# Altium footprint library LQFP.PcbLib: 57 footprints (part 3 of 4)
Each footprint in its own frame and in the unit in brackets; x right, y up, seen from the top. Pads: shape width x height; smd on the part's side, far side on the other; paste and mask are expansions set on the pad; w line width, h text height; cw(c..) or ccw(c..) is an arc to the next point about the centre after c.
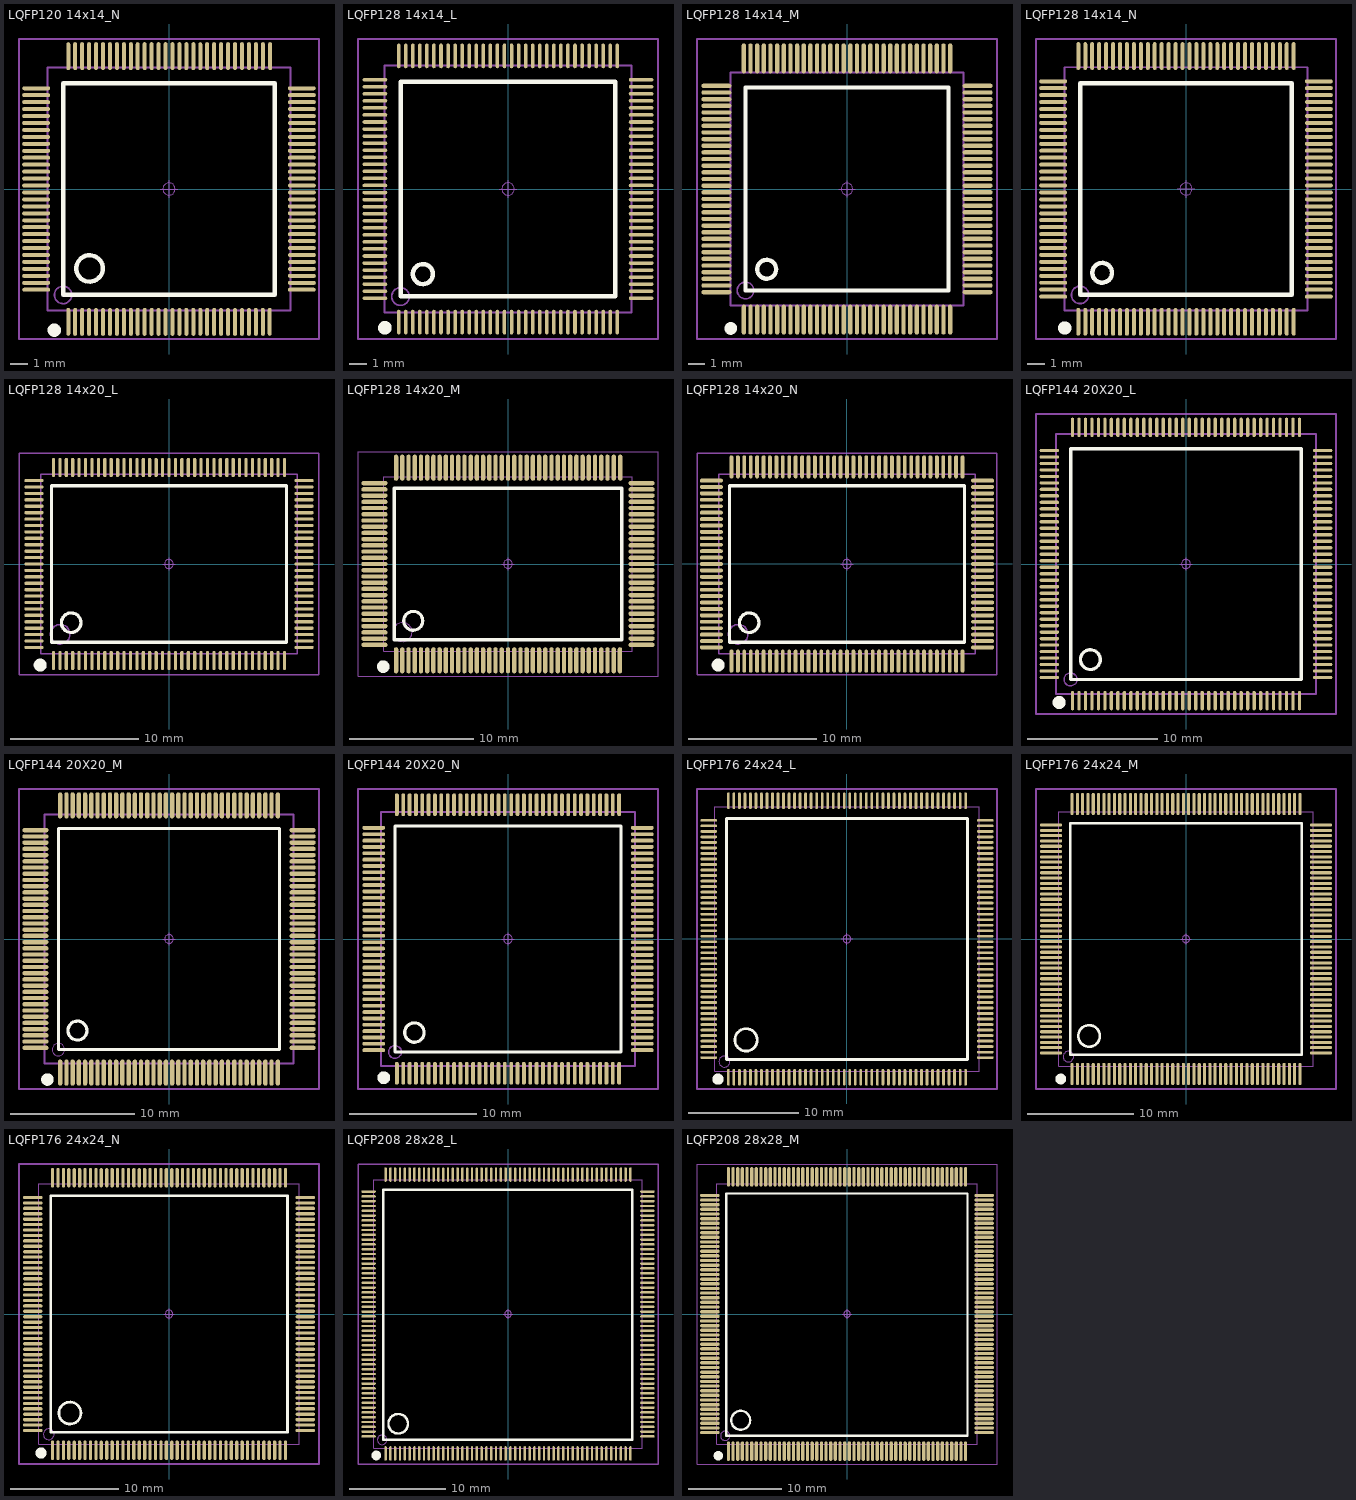
[diagram p2: the footprints below, top view; thin cyan lines are the x and y axes]

## LQFP120 14x14_N [mm] "120脚，体宽：14x14mm, 脚距：0.4mm"
pads (120):
  oval 0.23x1.6 smd: 1(-5.8,-7.651) 2(-5.4,-7.651) 3(-5,-7.651) 4(-4.6,-7.651) 5(-4.2,-7.651) 6(-3.8,-7.651) 7(-3.4,-7.651) 8(-3,-7.651) 9(-2.6,-7.651) 10(-2.2,-7.651) 11(-1.8,-7.651) 12(-1.4,-7.651) 13(-1,-7.651) 14(-0.6,-7.651) 15(-0.2,-7.651) 16(0.2,-7.651) 17(0.6,-7.651) 18(1,-7.651) 19(1.4,-7.651) 20(1.8,-7.651) 21(2.2,-7.651) 22(2.6,-7.651) 23(3,-7.651) 24(3.4,-7.651) 25(3.8,-7.651) 26(4.2,-7.651) 27(4.6,-7.651) 28(5,-7.651) 29(5.4,-7.651) 30(5.8,-7.651) 61(5.825,7.651) 62(5.4,7.651) 63(5,7.651) 64(4.6,7.651) 65(4.2,7.651) 66(3.8,7.651) 67(3.4,7.651) 68(3,7.651) 69(2.6,7.651) 70(2.2,7.651) 71(1.8,7.651) 72(1.4,7.651) 73(1,7.651) 74(0.6,7.651) 75(0.2,7.651) 76(-0.2,7.651) 77(-0.6,7.651) 78(-1,7.651) 79(-1.4,7.651) 80(-1.8,7.651) 81(-2.2,7.651) 82(-2.6,7.651) 83(-3,7.651) 84(-3.4,7.651) 85(-3.8,7.651) 86(-4.2,7.651) 87(-4.6,7.651) 88(-5,7.651) 89(-5.4,7.651) 90(-5.8,7.651)
  oval 1.6x0.23 smd: 31(7.651,-5.8) 32(7.651,-5.4) 33(7.651,-5) 34(7.651,-4.6) 35(7.651,-4.2) 36(7.651,-3.8) 37(7.651,-3.4) 38(7.651,-3) 39(7.651,-2.6) 40(7.651,-2.2) 41(7.651,-1.8) 42(7.651,-1.4) 43(7.651,-1) 44(7.651,-0.6) 45(7.651,-0.2) 46(7.651,0.2) 47(7.651,0.6) 48(7.651,1) 49(7.651,1.4) 50(7.651,1.8) 51(7.651,2.2) 52(7.651,2.6) 53(7.651,3) 54(7.651,3.4) 55(7.651,3.8) 56(7.651,4.2) 57(7.651,4.6) 58(7.651,5) 59(7.651,5.4) 60(7.651,5.8) 91(-7.651,5.8) 92(-7.651,5.4) 93(-7.651,5) 94(-7.651,4.6) 95(-7.651,4.2) 96(-7.651,3.8) 97(-7.651,3.4) 98(-7.651,3) 99(-7.651,2.6) 100(-7.651,2.2) 101(-7.651,1.8) 102(-7.651,1.4) 103(-7.651,1) 104(-7.651,0.6) 105(-7.651,0.2) 106(-7.651,-0.2) 107(-7.651,-0.6) 108(-7.651,-1) 109(-7.651,-1.4) 110(-7.651,-1.8) 111(-7.651,-2.2) 112(-7.651,-2.6) 113(-7.651,-3) 114(-7.651,-3.4) 115(-7.651,-3.8) 116(-7.651,-4.2) 117(-7.651,-4.6) 118(-7.651,-5) 119(-7.651,-5.4) 120(-7.651,-5.8)
Top Overlay:
  circle w0.254: c-4.572,-4.572 r0.762
  circle w0.508: c-6.604,-8.128 r0.127
  lines w0.254: -6.096,-6.096 -6.096,6.096 6.096,6.096 6.096,-6.096 -6.096,-6.096
Mechanical 13:
  circle w0.1: c-6.1,-6.1 r0.5
  lines w0.1: -7,-7 -7,7 7,7 7,-7 -7,-7
Mechanical 15:
  circle w0.05: c0,0 r0.35
  lines w0.05: -0.5,0 0.5,0 ; 0,-0.5 0,0.5
  lines w0.1: -8.636,-8.636 -8.636,8.636 8.636,8.636 8.636,-8.636 -8.636,-8.636
3D body: height 1.45, standoff -0.01, extent -8.003,-8.003 8.003,8.003

## LQFP128 14x14_L [mm] "128脚，体宽：14x14mm, 脚距：0.4mm"
pads (128):
  oval 0.2x1.4 smd: 1(-6.2,-7.549) 2(-5.8,-7.549) 3(-5.4,-7.549) 4(-5,-7.549) 5(-4.6,-7.549) 6(-4.2,-7.549) 7(-3.8,-7.549) 8(-3.4,-7.549) 9(-3,-7.549) 10(-2.6,-7.549) 11(-2.2,-7.549) 12(-1.8,-7.549) 13(-1.4,-7.549) 14(-1,-7.549) 15(-0.6,-7.549) 16(-0.2,-7.549) 17(0.2,-7.549) 18(0.6,-7.549) 19(1,-7.549) 20(1.4,-7.549) 21(1.8,-7.549) 22(2.2,-7.549) 23(2.6,-7.549) 24(3,-7.549) 25(3.4,-7.549) 26(3.8,-7.549) 27(4.2,-7.549) 28(4.6,-7.549) 29(5,-7.549) 30(5.4,-7.549) 31(5.8,-7.549) 32(6.2,-7.549) 65(6.2,7.549) 66(5.8,7.549) 67(5.4,7.549) 68(5,7.549) 69(4.6,7.549) 70(4.2,7.549) 71(3.8,7.549) 72(3.4,7.549) 73(3,7.549) 74(2.6,7.549) 75(2.2,7.549) 76(1.8,7.549) 77(1.4,7.549) 78(1,7.549) 79(0.6,7.549) 80(0.2,7.549) 81(-0.2,7.549) 82(-0.6,7.549) 83(-1,7.549) 84(-1.4,7.549) 85(-1.8,7.549) 86(-2.2,7.549) 87(-2.6,7.549) 88(-3,7.549) 89(-3.4,7.549) 90(-3.8,7.549) 91(-4.2,7.549) 92(-4.6,7.549) 93(-5,7.549) 94(-5.4,7.549) 95(-5.8,7.549) 96(-6.2,7.549)
  oval 1.4x0.2 smd: 33(7.549,-6.2) 34(7.549,-5.8) 35(7.549,-5.4) 36(7.549,-5) 37(7.549,-4.6) 38(7.549,-4.2) 39(7.549,-3.8) 40(7.549,-3.4) 41(7.549,-3) 42(7.549,-2.6) 43(7.549,-2.2) 44(7.549,-1.8) 45(7.549,-1.4) 46(7.549,-1) 47(7.549,-0.6) 48(7.549,-0.2) 49(7.549,0.2) 50(7.549,0.6) 51(7.549,1) 52(7.549,1.4) 53(7.549,1.8) 54(7.549,2.2) 55(7.549,2.6) 56(7.549,3) 57(7.549,3.4) 58(7.549,3.8) 59(7.549,4.2) 60(7.549,4.6) 61(7.549,5) 62(7.549,5.4) 63(7.549,5.8) 64(7.549,6.2) 97(-7.549,6.2) 98(-7.549,5.8) 99(-7.549,5.4) 100(-7.549,5) 101(-7.549,4.6) 102(-7.549,4.2) 103(-7.549,3.8) 104(-7.549,3.4) 105(-7.549,3) 106(-7.549,2.6) 107(-7.549,2.2) 108(-7.549,1.8) 109(-7.549,1.4) 110(-7.549,1) 111(-7.549,0.6) 112(-7.549,0.2) 113(-7.549,-0.2) 114(-7.549,-0.6) 115(-7.549,-1) 116(-7.549,-1.4) 117(-7.549,-1.8) 118(-7.549,-2.2) 119(-7.549,-2.6) 120(-7.549,-3) 121(-7.549,-3.4) 122(-7.549,-3.8) 123(-7.549,-4.2) 124(-7.549,-4.6) 125(-7.549,-5) 126(-7.549,-5.4) 127(-7.549,-5.8) 128(-7.549,-6.2)
Top Overlay:
  circle w0.508: c-6.985,-7.874 r0.127
  circle w0.254: c-4.826,-4.826 r0.568
  lines w0.254: -6.096,-6.096 6.096,-6.096 6.096,6.096 -6.096,6.096 -6.096,-6.096
Mechanical 13:
  circle w0.1: c-6.1,-6.1 r0.5
  lines w0.1: -7,-7 -7,7 7,7 7,-7 -7,-7
Mechanical 15:
  circle w0.05: c0,0 r0.35
  lines w0.05: -0.5,0 0.5,0 ; 0,-0.5 0,0.5
  lines w0.1: -8.509,-8.509 8.509,-8.509 8.509,8.509 -8.509,8.509 -8.509,-8.509
3D body: height 1.45, standoff -0.01, extent -8.003,-8.003 8.003,8.003

## LQFP128 14x14_M [mm] "128脚，体宽：14x14mm, 脚距：0.4mm"
pads (128):
  oval 0.26x1.8 smd: 1(-6.2,-7.854) 2(-5.8,-7.854) 3(-5.4,-7.854) 4(-5,-7.854) 5(-4.6,-7.854) 6(-4.2,-7.854) 7(-3.8,-7.854) 8(-3.4,-7.854) 9(-3,-7.854) 10(-2.6,-7.854) 11(-2.2,-7.854) 12(-1.8,-7.854) 13(-1.4,-7.854) 14(-1,-7.854) 15(-0.6,-7.854) 16(-0.2,-7.854) 17(0.2,-7.854) 18(0.6,-7.854) 19(1,-7.854) 20(1.4,-7.854) 21(1.8,-7.854) 22(2.2,-7.854) 23(2.6,-7.854) 24(3,-7.854) 25(3.4,-7.854) 26(3.8,-7.854) 27(4.2,-7.854) 28(4.6,-7.854) 29(5,-7.854) 30(5.4,-7.854) 31(5.8,-7.854) 32(6.2,-7.854) 65(6.2,7.854) 66(5.8,7.854) 67(5.4,7.854) 68(5,7.854) 69(4.6,7.854) 70(4.2,7.854) 71(3.8,7.854) 72(3.4,7.854) 73(3,7.854) 74(2.6,7.854) 75(2.2,7.854) 76(1.8,7.854) 77(1.4,7.854) 78(1,7.854) 79(0.6,7.854) 80(0.2,7.854) 81(-0.2,7.854) 82(-0.6,7.854) 83(-1,7.854) 84(-1.4,7.854) 85(-1.8,7.854) 86(-2.2,7.854) 87(-2.6,7.854) 88(-3,7.854) 89(-3.4,7.854) 90(-3.8,7.854) 91(-4.2,7.854) 92(-4.6,7.854) 93(-5,7.854) 94(-5.4,7.854) 95(-5.8,7.854) 96(-6.2,7.854)
  oval 1.8x0.26 smd: 33(7.854,-6.2) 34(7.854,-5.8) 35(7.854,-5.4) 36(7.854,-5) 37(7.854,-4.6) 38(7.854,-4.2) 39(7.854,-3.8) 40(7.854,-3.4) 41(7.854,-3) 42(7.854,-2.6) 43(7.854,-2.2) 44(7.854,-1.8) 45(7.854,-1.4) 46(7.854,-1) 47(7.854,-0.6) 48(7.854,-0.2) 49(7.854,0.2) 50(7.854,0.6) 51(7.854,1) 52(7.854,1.4) 53(7.854,1.8) 54(7.854,2.2) 55(7.854,2.6) 56(7.854,3) 57(7.854,3.4) 58(7.854,3.8) 59(7.854,4.2) 60(7.854,4.6) 61(7.854,5) 62(7.854,5.4) 63(7.854,5.8) 64(7.854,6.2) 97(-7.854,6.2) 98(-7.854,5.8) 99(-7.854,5.4) 100(-7.854,5) 101(-7.854,4.6) 102(-7.854,4.2) 103(-7.854,3.8) 104(-7.854,3.4) 105(-7.854,3) 106(-7.854,2.6) 107(-7.854,2.2) 108(-7.854,1.8) 109(-7.854,1.4) 110(-7.854,1) 111(-7.854,0.6) 112(-7.854,0.2) 113(-7.854,-0.2) 114(-7.854,-0.6) 115(-7.854,-1) 116(-7.854,-1.4) 117(-7.854,-1.8) 118(-7.854,-2.2) 119(-7.854,-2.6) 120(-7.854,-3) 121(-7.854,-3.4) 122(-7.854,-3.8) 123(-7.854,-4.2) 124(-7.854,-4.6) 125(-7.854,-5) 126(-7.854,-5.4) 127(-7.854,-5.8) 128(-7.854,-6.2)
Top Overlay:
  circle w0.508: c-6.985,-8.382 r0.127
  circle w0.254: c-4.826,-4.826 r0.568
  lines w0.254: -6.096,-6.096 6.096,-6.096 6.096,6.096 -6.096,6.096 -6.096,-6.096
Mechanical 13:
  circle w0.1: c-6.1,-6.1 r0.5
  lines w0.1: -7,-7 -7,7 7,7 7,-7 -7,-7
Mechanical 15:
  circle w0.05: c0,0 r0.35
  lines w0.05: -0.5,0 0.5,0 ; 0,-0.5 0,0.5
  lines w0.1: -9.017,-9.017 9.017,-9.017 9.017,9.017 -9.017,9.017 -9.017,-9.017
3D body: height 1.45, standoff -0.01, extent -8.003,-8.003 8.003,8.003

## LQFP128 14x14_N [mm] "128脚，体宽：14x14mm, 脚距：0.4mm"
pads (128):
  oval 0.23x1.6 smd: 1(-6.2,-7.648) 2(-5.8,-7.648) 3(-5.4,-7.648) 4(-5,-7.648) 5(-4.6,-7.648) 6(-4.2,-7.648) 7(-3.8,-7.648) 8(-3.4,-7.648) 9(-3,-7.648) 10(-2.6,-7.648) 11(-2.2,-7.648) 12(-1.8,-7.648) 13(-1.4,-7.648) 14(-1,-7.648) 15(-0.6,-7.648) 16(-0.2,-7.648) 17(0.2,-7.648) 18(0.6,-7.648) 19(1,-7.648) 20(1.4,-7.648) 21(1.8,-7.648) 22(2.2,-7.648) 23(2.6,-7.648) 24(3,-7.648) 25(3.4,-7.648) 26(3.8,-7.648) 27(4.2,-7.648) 28(4.6,-7.648) 29(5,-7.648) 30(5.4,-7.648) 31(5.8,-7.648) 32(6.2,-7.648) 65(6.2,7.653) 66(5.8,7.653) 67(5.4,7.653) 68(5,7.653) 69(4.6,7.653) 70(4.2,7.653) 71(3.8,7.653) 72(3.4,7.653) 73(3,7.653) 74(2.6,7.653) 75(2.2,7.653) 76(1.8,7.653) 77(1.4,7.653) 78(1,7.653) 79(0.6,7.653) 80(0.2,7.653) 81(-0.2,7.653) 82(-0.6,7.653) 83(-1,7.653) 84(-1.4,7.653) 85(-1.8,7.653) 86(-2.2,7.653) 87(-2.6,7.653) 88(-3,7.653) 89(-3.4,7.653) 90(-3.8,7.653) 91(-4.2,7.653) 92(-4.6,7.653) 93(-5,7.653) 94(-5.4,7.653) 95(-5.8,7.653) 96(-6.2,7.653)
  oval 1.6x0.23 smd: 33(7.651,-6.198) 34(7.651,-5.798) 35(7.651,-5.398) 36(7.651,-4.998) 37(7.651,-4.598) 38(7.651,-4.198) 39(7.651,-3.798) 40(7.651,-3.398) 41(7.651,-2.998) 42(7.651,-2.598) 43(7.651,-2.198) 44(7.651,-1.798) 45(7.651,-1.398) 46(7.651,-0.998) 47(7.651,-0.598) 48(7.651,-0.198) 49(7.651,0.202) 50(7.651,0.602) 51(7.651,1.002) 52(7.651,1.402) 53(7.651,1.802) 54(7.651,2.202) 55(7.651,2.602) 56(7.651,3.002) 57(7.651,3.402) 58(7.651,3.802) 59(7.651,4.202) 60(7.651,4.602) 61(7.651,5.002) 62(7.651,5.402) 63(7.651,5.802) 64(7.651,6.202) 97(-7.651,6.202) 98(-7.651,5.802) 99(-7.651,5.402) 100(-7.651,5.002) 101(-7.651,4.602) 102(-7.651,4.202) 103(-7.651,3.802) 104(-7.651,3.402) 105(-7.651,3.002) 106(-7.651,2.602) 107(-7.651,2.202) 108(-7.651,1.802) 109(-7.651,1.402) 110(-7.651,1.002) 111(-7.651,0.602) 112(-7.651,0.202) 113(-7.651,-0.198) 114(-7.651,-0.598) 115(-7.651,-0.998) 116(-7.651,-1.398) 117(-7.651,-1.798) 118(-7.651,-2.198) 119(-7.651,-2.598) 120(-7.651,-2.998) 121(-7.651,-3.398) 122(-7.651,-3.798) 123(-7.651,-4.198) 124(-7.651,-4.598) 125(-7.651,-4.998) 126(-7.651,-5.398) 127(-7.651,-5.798) 128(-7.651,-6.198)
Top Overlay:
  circle w0.508: c-6.985,-8.001 r0.127
  circle w0.254: c-4.826,-4.824 r0.568
  lines w0.254: -6.096,-6.094 6.096,-6.094 6.096,6.098 -6.096,6.098 -6.096,-6.094
Mechanical 13:
  circle w0.1: c-6.1,-6.098 r0.5
  lines w0.1: -7,-6.998 -7,7.002 7,7.002 7,-6.998 -7,-6.998
Mechanical 15:
  circle w0.05: c0,0.002 r0.35
  lines w0.05: -0.5,0.002 0.5,0.002 ; 0,-0.498 0,0.502
  lines w0.1: -8.636,-8.636 8.636,-8.636 8.636,8.636 -8.636,8.636 -8.636,-8.636
3D body: height 1.45, standoff -0.01, extent -8.003,-8 8.003,8.005

## LQFP128 14x20_L [mm] "128脚，体宽：14x20mm, 脚距：0.5mm"
pads (128):
  oval 0.25x1.5 smd: 1(-9,-7.517) 2(-8.5,-7.517) 3(-8,-7.517) 4(-7.5,-7.517) 5(-7,-7.517) 6(-6.5,-7.517) 7(-6,-7.517) 8(-5.5,-7.517) 9(-5,-7.517) 10(-4.5,-7.517) 11(-4,-7.517) 12(-3.5,-7.517) 13(-3,-7.517) 14(-2.5,-7.517) 15(-2,-7.517) 16(-1.5,-7.517) 17(-1,-7.517) 18(-0.5,-7.517) 19(0,-7.517) 20(0.5,-7.517) 21(1,-7.517) 22(1.5,-7.517) 23(2,-7.517) 24(2.5,-7.517) 25(3,-7.517) 26(3.5,-7.517) 27(4,-7.517) 28(4.5,-7.517) 29(5,-7.517) 30(5.5,-7.517) 31(6,-7.517) 32(6.5,-7.517) 33(7,-7.517) 34(7.5,-7.517) 35(8,-7.517) 36(8.5,-7.517) 37(9,-7.517) 65(9,7.517) 66(8.5,7.517) 67(8,7.517) 68(7.5,7.517) 69(7,7.517) 70(6.5,7.517) 71(6,7.517) 72(5.5,7.517) 73(5,7.517) 74(4.5,7.517) 75(4,7.517) 76(3.5,7.517) 77(3,7.517) 78(2.5,7.517) 79(2,7.517) 80(1.5,7.517) 81(1,7.517) 82(0.5,7.517) 83(0,7.517) 84(-0.5,7.517) 85(-1,7.517) 86(-1.5,7.517) 87(-2,7.517) 88(-2.5,7.517) 89(-3,7.517) 90(-3.5,7.517) 91(-4,7.517) 92(-4.5,7.517) 93(-5,7.517) 94(-5.5,7.517) 95(-6,7.517) 96(-6.5,7.517) 97(-7,7.517) 98(-7.5,7.517) 99(-8,7.517) 100(-8.5,7.517) 101(-9,7.517)
  oval 1.5x0.25 smd: 38(10.517,-6.5) 39(10.517,-6) 40(10.517,-5.5) 41(10.517,-5) 42(10.517,-4.5) 43(10.517,-4) 44(10.517,-3.5) 45(10.517,-3) 46(10.517,-2.5) 47(10.517,-2) 48(10.517,-1.5) 49(10.517,-1) 50(10.517,-0.5) 51(10.517,0) 52(10.517,0.5) 53(10.517,1) 54(10.517,1.5) 55(10.517,2) 56(10.517,2.5) 57(10.517,3) 58(10.517,3.5) 59(10.517,4) 60(10.517,4.5) 61(10.517,5) 62(10.517,5.5) 63(10.517,6) 64(10.517,6.5) 102(-10.517,6.5) 103(-10.517,6) 104(-10.517,5.5) 105(-10.517,5) 106(-10.517,4.5) 107(-10.517,4) 108(-10.517,3.5) 109(-10.517,3) 110(-10.517,2.5) 111(-10.517,2) 112(-10.517,1.5) 113(-10.517,1) 114(-10.517,0.5) 115(-10.517,0) 116(-10.517,-0.5) 117(-10.517,-1) 118(-10.517,-1.5) 119(-10.517,-2) 120(-10.517,-2.5) 121(-10.517,-3) 122(-10.517,-3.5) 123(-10.517,-4) 124(-10.517,-4.5) 125(-10.517,-5) 126(-10.517,-5.5) 127(-10.517,-6) 128(-10.517,-6.5)
Top Overlay:
  circle w0.508: c-10.033,-7.874 r0.25
  circle w0.254: c-7.62,-4.572 r0.762
  lines w0.254: -9.144,-6.096 -9.144,6.096 9.144,6.096 9.144,-6.096 -9.144,-6.096
Mechanical 13:
  circle w0.1: c-8.476,-5.476 r0.762
  lines w0.1: -10,-7 10,-7 10,7 -10,7 -10,-7
Mechanical 15:
  circle w0.05: c0,0 r0.35
  lines w0.05: -0.5,0 0.5,0 ; 0,-0.5 0,0.5
  lines w0.1: -11.684,-8.636 -11.684,8.636 11.684,8.636 11.684,-8.636 -11.684,-8.636
3D body: height 1.45, standoff -0.01, extent -11.003,-8.003 11.003,8.003

## LQFP128 14x20_M [mm] "128脚，体宽：14x20mm, 脚距：0.5mm"
pads (128):
  oval 0.35x2.1 smd: 1(-9,-7.746) 2(-8.5,-7.746) 3(-8,-7.746) 4(-7.5,-7.746) 5(-7,-7.746) 6(-6.5,-7.746) 7(-6,-7.746) 8(-5.5,-7.746) 9(-5,-7.746) 10(-4.5,-7.746) 11(-4,-7.746) 12(-3.5,-7.746) 13(-3,-7.746) 14(-2.5,-7.746) 15(-2,-7.746) 16(-1.5,-7.746) 17(-1,-7.746) 18(-0.5,-7.746) 19(0,-7.746) 20(0.5,-7.746) 21(1,-7.746) 22(1.5,-7.746) 23(2,-7.746) 24(2.5,-7.746) 25(3,-7.746) 26(3.5,-7.746) 27(4,-7.746) 28(4.5,-7.746) 29(5,-7.746) 30(5.5,-7.746) 31(6,-7.746) 32(6.5,-7.746) 33(7,-7.746) 34(7.5,-7.746) 35(8,-7.746) 36(8.5,-7.746) 37(9,-7.746) 65(9.025,7.746) 66(8.5,7.746) 67(8,7.746) 68(7.5,7.746) 69(7,7.746) 70(6.5,7.746) 71(6,7.746) 72(5.5,7.746) 73(5,7.746) 74(4.5,7.746) 75(4,7.746) 76(3.5,7.746) 77(3,7.746) 78(2.5,7.746) 79(2,7.746) 80(1.5,7.746) 81(1,7.746) 82(0.5,7.746) 83(0,7.746) 84(-0.5,7.746) 85(-1,7.746) 86(-1.5,7.746) 87(-2,7.746) 88(-2.5,7.746) 89(-3,7.746) 90(-3.5,7.746) 91(-4,7.746) 92(-4.5,7.746) 93(-5,7.746) 94(-5.5,7.746) 95(-6,7.746) 96(-6.5,7.746) 97(-7,7.746) 98(-7.5,7.746) 99(-8,7.746) 100(-8.5,7.746) 101(-9,7.746)
  oval 2.1x0.35 smd: 38(10.746,-6.5) 39(10.746,-6) 40(10.746,-5.5) 41(10.746,-5) 42(10.746,-4.5) 43(10.746,-4) 44(10.746,-3.5) 45(10.746,-3) 46(10.746,-2.5) 47(10.746,-2) 48(10.746,-1.5) 49(10.746,-1) 50(10.746,-0.5) 51(10.746,0) 52(10.746,0.5) 53(10.746,1) 54(10.746,1.5) 55(10.746,2) 56(10.746,2.5) 57(10.746,3) 58(10.746,3.5) 59(10.746,4) 60(10.746,4.5) 61(10.746,5) 62(10.746,5.5) 63(10.746,6) 64(10.746,6.5) 102(-10.746,6.5) 103(-10.746,6) 104(-10.746,5.5) 105(-10.746,5) 106(-10.746,4.5) 107(-10.746,4) 108(-10.746,3.5) 109(-10.746,3) 110(-10.746,2.5) 111(-10.746,2) 112(-10.746,1.5) 113(-10.746,1) 114(-10.746,0.5) 115(-10.746,0) 116(-10.746,-0.5) 117(-10.746,-1) 118(-10.746,-1.5) 119(-10.746,-2) 120(-10.746,-2.5) 121(-10.746,-3) 122(-10.746,-3.5) 123(-10.746,-4) 124(-10.746,-4.5) 125(-10.746,-5) 126(-10.746,-5.5) 127(-10.746,-6) 128(-10.746,-6.5)
Top Overlay:
  circle w0.254: c-7.62,-4.572 r0.762
  circle w0.508: c-10.033,-8.255 r0.25
  lines w0.254: -9.144,-6.096 -9.144,6.096 9.144,6.096 9.144,-6.096 -9.144,-6.096
Mechanical 13:
  circle w0.1: c-8.476,-5.476 r0.762
  lines w0.1: -10,-7 10,-7 10,7 -10,7 -10,-7
Mechanical 15:
  circle w0.05: c0,0 r0.35
  lines w0.05: -0.5,0 0.5,0 ; 0,-0.5 0,0.5
  lines w0.1: -12.065,-9.017 -12.065,9.017 12.065,9.017 12.065,-9.017 -12.065,-9.017
3D body: height 1.45, standoff -0.01, extent -11.003,-8.003 11.003,8.003

## LQFP128 14x20_N [mm] "128脚，体宽：14x20mm, 脚距：0.5mm"
pads (128):
  oval 0.3x1.8 smd: 1(-8.998,-7.571) 2(-8.498,-7.571) 3(-7.998,-7.571) 4(-7.498,-7.571) 5(-6.998,-7.571) 6(-6.498,-7.571) 7(-5.998,-7.571) 8(-5.498,-7.571) 9(-4.998,-7.571) 10(-4.498,-7.571) 11(-3.998,-7.571) 12(-3.498,-7.571) 13(-2.998,-7.571) 14(-2.498,-7.571) 15(-1.998,-7.571) 16(-1.498,-7.571) 17(-0.998,-7.571) 18(-0.498,-7.571) 19(0.002,-7.571) 20(0.502,-7.571) 21(1.002,-7.571) 22(1.502,-7.571) 23(2.002,-7.571) 24(2.502,-7.571) 25(3.002,-7.571) 26(3.502,-7.571) 27(4.002,-7.571) 28(4.502,-7.571) 29(5.002,-7.571) 30(5.502,-7.571) 31(6.002,-7.571) 32(6.502,-7.571) 33(7.002,-7.571) 34(7.502,-7.571) 35(8.002,-7.571) 36(8.502,-7.571) 37(9.002,-7.571) 65(9.002,7.566) 66(8.502,7.566) 67(8.002,7.566) 68(7.502,7.566) 69(7.002,7.566) 70(6.502,7.566) 71(6.002,7.566) 72(5.502,7.566) 73(5.002,7.566) 74(4.502,7.566) 75(4.002,7.566) 76(3.502,7.566) 77(3.002,7.566) 78(2.502,7.566) 79(2.002,7.566) 80(1.502,7.566) 81(1.002,7.566) 82(0.502,7.566) 83(0.002,7.566) 84(-0.498,7.566) 85(-0.998,7.566) 86(-1.498,7.566) 87(-1.998,7.566) 88(-2.498,7.566) 89(-2.998,7.566) 90(-3.498,7.566) 91(-3.998,7.566) 92(-4.498,7.566) 93(-4.998,7.566) 94(-5.498,7.566) 95(-5.998,7.566) 96(-6.498,7.566) 97(-6.998,7.566) 98(-7.498,7.566) 99(-7.998,7.566) 100(-8.498,7.566) 101(-8.998,7.566)
  oval 1.8x0.3 smd: 38(10.57,-6.502) 39(10.57,-6.002) 40(10.57,-5.502) 41(10.57,-5.002) 42(10.57,-4.502) 43(10.57,-4.002) 44(10.57,-3.502) 45(10.57,-3.002) 46(10.57,-2.502) 47(10.57,-2.002) 48(10.57,-1.502) 49(10.57,-1.002) 50(10.57,-0.502) 51(10.57,-0.002) 52(10.57,0.498) 53(10.57,0.998) 54(10.57,1.498) 55(10.57,1.998) 56(10.57,2.498) 57(10.57,2.998) 58(10.57,3.498) 59(10.57,3.998) 60(10.57,4.498) 61(10.57,4.998) 62(10.57,5.498) 63(10.57,5.998) 64(10.57,6.498) 102(-10.566,6.498) 103(-10.566,5.998) 104(-10.566,5.498) 105(-10.566,4.998) 106(-10.566,4.498) 107(-10.566,3.998) 108(-10.566,3.498) 109(-10.566,2.998) 110(-10.566,2.498) 111(-10.566,1.998) 112(-10.566,1.498) 113(-10.566,0.998) 114(-10.566,0.498) 115(-10.566,-0.002) 116(-10.566,-0.502) 117(-10.566,-1.002) 118(-10.566,-1.502) 119(-10.566,-2.002) 120(-10.566,-2.502) 121(-10.566,-3.002) 122(-10.566,-3.502) 123(-10.566,-4.002) 124(-10.566,-4.502) 125(-10.566,-5.002) 126(-10.566,-5.502) 127(-10.566,-6.002) 128(-10.566,-6.502)
Top Overlay:
  circle w0.254: c-7.618,-4.574 r0.762
  circle w0.508: c-10.033,-7.874 r0.25
  lines w0.254: -9.142,-6.098 -9.142,6.094 9.146,6.094 9.146,-6.098 -9.142,-6.098
Mechanical 13:
  circle w0.1: c-8.474,-5.478 r0.762
  lines w0.1: -9.998,-7.002 10.002,-7.002 10.002,6.998 -9.998,6.998 -9.998,-7.002
Mechanical 15:
  circle w0.05: c0.002,-0.002 r0.35
  lines w0.05: -0.498,-0.002 0.502,-0.002 ; 0.002,-0.502 0.002,0.498
  lines w0.1: -11.682,-8.638 -11.682,8.634 11.686,8.634 11.686,-8.638 -11.682,-8.638
3D body: height 1.45, standoff -0.01, extent -11.001,-8.005 11.005,8

## LQFP144 20X20_L [mm] "144脚，体宽20x20mm，脚距0.5mm"
pads (144):
  oval 0.25x1.5 smd: 1(-8.75,-10.525) 2(-8.25,-10.525) 3(-7.75,-10.525) 4(-7.25,-10.525) 5(-6.75,-10.525) 6(-6.25,-10.525) 7(-5.75,-10.525) 8(-5.25,-10.525) 9(-4.75,-10.525) 10(-4.25,-10.525) 11(-3.75,-10.525) 12(-3.25,-10.525) 13(-2.75,-10.525) 14(-2.25,-10.525) 15(-1.75,-10.525) 16(-1.25,-10.525) 17(-0.75,-10.525) 18(-0.25,-10.525) 19(0.25,-10.525) 20(0.75,-10.525) 21(1.25,-10.525) 22(1.75,-10.525) 23(2.25,-10.525) 24(2.75,-10.525) 25(3.25,-10.525) 26(3.75,-10.525) 27(4.25,-10.525) 28(4.75,-10.525) 29(5.25,-10.525) 30(5.75,-10.525) 31(6.25,-10.525) 32(6.75,-10.525) 33(7.25,-10.525) 34(7.75,-10.525) 35(8.25,-10.525) 36(8.75,-10.525) 73(8.75,10.525) 74(8.25,10.525) 75(7.75,10.525) 76(7.25,10.525) 77(6.75,10.525) 78(6.25,10.525) 79(5.75,10.525) 80(5.25,10.525) 81(4.75,10.525) 82(4.25,10.525) 83(3.75,10.525) 84(3.25,10.525) 85(2.75,10.525) 86(2.25,10.525) 87(1.75,10.525) 88(1.25,10.525) 89(0.75,10.525) 90(0.25,10.525) 91(-0.25,10.525) 92(-0.75,10.525) 93(-1.25,10.525) 94(-1.75,10.525) 95(-2.25,10.525) 96(-2.75,10.525) 97(-3.25,10.525) 98(-3.75,10.525) 99(-4.25,10.525) 100(-4.75,10.525) 101(-5.25,10.525) 102(-5.75,10.525) 103(-6.25,10.525) 104(-6.75,10.525) 105(-7.25,10.525) 106(-7.75,10.525) 107(-8.25,10.525) 108(-8.75,10.525)
  oval 1.5x0.25 smd: 37(10.525,-8.75) 38(10.525,-8.25) 39(10.525,-7.75) 40(10.525,-7.25) 41(10.525,-6.75) 42(10.525,-6.25) 43(10.525,-5.75) 44(10.525,-5.25) 45(10.525,-4.75) 46(10.525,-4.25) 47(10.525,-3.75) 48(10.525,-3.25) 49(10.525,-2.75) 50(10.525,-2.25) 51(10.525,-1.75) 52(10.525,-1.25) 53(10.525,-0.75) 54(10.525,-0.25) 55(10.525,0.25) 56(10.525,0.75) 57(10.525,1.25) 58(10.525,1.75) 59(10.525,2.25) 60(10.525,2.75) 61(10.525,3.25) 62(10.525,3.75) 63(10.525,4.25) 64(10.525,4.75) 65(10.525,5.25) 66(10.525,5.75) 67(10.525,6.25) 68(10.525,6.75) 69(10.525,7.25) 70(10.525,7.75) 71(10.525,8.25) 72(10.525,8.75) 109(-10.525,8.75) 110(-10.525,8.25) 111(-10.525,7.75) 112(-10.525,7.25) 113(-10.525,6.75) 114(-10.525,6.25) 115(-10.525,5.75) 116(-10.525,5.25) 117(-10.525,4.75) 118(-10.525,4.25) 119(-10.525,3.75) 120(-10.525,3.25) 121(-10.525,2.75) 122(-10.525,2.25) 123(-10.525,1.75) 124(-10.525,1.25) 125(-10.525,0.75) 126(-10.525,0.25) 127(-10.525,-0.25) 128(-10.525,-0.75) 129(-10.525,-1.25) 130(-10.525,-1.75) 131(-10.525,-2.25) 132(-10.525,-2.75) 133(-10.525,-3.25) 134(-10.525,-3.75) 135(-10.525,-4.25) 136(-10.525,-4.75) 137(-10.525,-5.25) 138(-10.525,-5.75) 139(-10.525,-6.25) 140(-10.525,-6.75) 141(-10.525,-7.25) 142(-10.525,-7.75) 143(-10.525,-8.25) 144(-10.525,-8.75)
Top Overlay:
  circle w0.254: c-7.366,-7.366 r0.762
  circle w0.508: c-9.779,-10.668 r0.25
  lines w0.254: -8.89,-8.892 8.89,-8.892 8.89,8.89 -8.89,8.89 -8.89,-8.892
Mechanical 13:
  circle w0.1: c-8.894,-8.894 r0.5
  lines w0.15: -10,-10 -10,10 10,10 10,-10 -10,-10
Mechanical 15:
  circle w0.05: c0,0 r0.35
  lines w0.05: -0.5,0 0.5,0 ; 0,-0.5 0,0.5
  lines w0.15: -11.557,-11.557 11.557,-11.557 11.557,11.557 -11.557,11.557 -11.557,-11.557
3D body: height 1.45, standoff -0.01, extent -11.003,-11.003 11.003,11.003

## LQFP144 20X20_M [mm] "144脚，体宽20x20mm，脚距0.5mm"
pads (144):
  oval 0.35x2.1 smd: 1(-8.75,-10.747) 2(-8.25,-10.747) 3(-7.75,-10.747) 4(-7.25,-10.747) 5(-6.75,-10.747) 6(-6.25,-10.747) 7(-5.75,-10.747) 8(-5.25,-10.747) 9(-4.75,-10.747) 10(-4.25,-10.747) 11(-3.75,-10.747) 12(-3.25,-10.747) 13(-2.75,-10.747) 14(-2.25,-10.747) 15(-1.75,-10.747) 16(-1.25,-10.747) 17(-0.75,-10.747) 18(-0.25,-10.747) 19(0.25,-10.747) 20(0.75,-10.747) 21(1.25,-10.747) 22(1.75,-10.747) 23(2.25,-10.747) 24(2.75,-10.747) 25(3.25,-10.747) 26(3.75,-10.747) 27(4.25,-10.747) 28(4.75,-10.747) 29(5.25,-10.747) 30(5.75,-10.747) 31(6.25,-10.747) 32(6.75,-10.747) 33(7.25,-10.747) 34(7.75,-10.747) 35(8.25,-10.747) 36(8.75,-10.747) 73(8.75,10.747) 74(8.25,10.747) 75(7.75,10.747) 76(7.25,10.747) 77(6.75,10.747) 78(6.25,10.747) 79(5.75,10.747) 80(5.25,10.747) 81(4.75,10.747) 82(4.25,10.747) 83(3.75,10.747) 84(3.25,10.747) 85(2.75,10.747) 86(2.25,10.747) 87(1.75,10.747) 88(1.25,10.747) 89(0.75,10.747) 90(0.25,10.747) 91(-0.25,10.747) 92(-0.75,10.747) 93(-1.25,10.747) 94(-1.75,10.747) 95(-2.25,10.747) 96(-2.75,10.747) 97(-3.25,10.747) 98(-3.75,10.747) 99(-4.25,10.747) 100(-4.75,10.747) 101(-5.25,10.747) 102(-5.75,10.747) 103(-6.25,10.747) 104(-6.75,10.747) 105(-7.25,10.747) 106(-7.75,10.747) 107(-8.25,10.747) 108(-8.75,10.747)
  oval 2.1x0.35 smd: 37(10.747,-8.75) 38(10.747,-8.25) 39(10.747,-7.75) 40(10.747,-7.25) 41(10.747,-6.75) 42(10.747,-6.25) 43(10.747,-5.75) 44(10.747,-5.25) 45(10.747,-4.75) 46(10.747,-4.25) 47(10.747,-3.75) 48(10.747,-3.25) 49(10.747,-2.75) 50(10.747,-2.25) 51(10.747,-1.75) 52(10.747,-1.25) 53(10.747,-0.75) 54(10.747,-0.25) 55(10.747,0.25) 56(10.747,0.75) 57(10.747,1.25) 58(10.747,1.75) 59(10.747,2.25) 60(10.747,2.75) 61(10.747,3.25) 62(10.747,3.75) 63(10.747,4.25) 64(10.747,4.75) 65(10.747,5.25) 66(10.747,5.75) 67(10.747,6.25) 68(10.747,6.75) 69(10.747,7.25) 70(10.747,7.75) 71(10.747,8.25) 72(10.747,8.75) 109(-10.747,8.75) 110(-10.747,8.25) 111(-10.747,7.75) 112(-10.747,7.25) 113(-10.747,6.75) 114(-10.747,6.25) 115(-10.747,5.75) 116(-10.747,5.25) 117(-10.747,4.75) 118(-10.747,4.25) 119(-10.747,3.75) 120(-10.747,3.25) 121(-10.747,2.75) 122(-10.747,2.25) 123(-10.747,1.75) 124(-10.747,1.25) 125(-10.747,0.75) 126(-10.747,0.25) 127(-10.747,-0.25) 128(-10.747,-0.75) 129(-10.747,-1.25) 130(-10.747,-1.75) 131(-10.747,-2.25) 132(-10.747,-2.75) 133(-10.747,-3.25) 134(-10.747,-3.75) 135(-10.747,-4.25) 136(-10.747,-4.75) 137(-10.747,-5.25) 138(-10.747,-5.75) 139(-10.747,-6.25) 140(-10.747,-6.75) 141(-10.747,-7.25) 142(-10.747,-7.75) 143(-10.747,-8.25) 144(-10.747,-8.75)
Top Overlay:
  circle w0.508: c-9.779,-11.303 r0.25
  circle w0.254: c-7.366,-7.366 r0.762
  lines w0.254: -8.89,-8.892 8.89,-8.892 8.89,8.89 -8.89,8.89 -8.89,-8.892
Mechanical 13:
  circle w0.1: c-8.894,-8.894 r0.5
  lines w0.15: -10,-10 -10,10 10,10 10,-10 -10,-10
Mechanical 15:
  circle w0.05: c0,0 r0.35
  lines w0.05: -0.5,0 0.5,0 ; 0,-0.5 0,0.5
  lines w0.15: -12.065,-12.065 12.065,-12.065 12.065,12.065 -12.065,12.065 -12.065,-12.065
3D body: height 1.45, standoff -0.01, extent -11.003,-11.003 11.003,11.003

## LQFP144 20X20_N [mm] "144脚，体宽20x20mm，脚距0.5mm"
pads (144):
  oval 0.3x1.8 smd: 1(-8.75,-10.573) 2(-8.25,-10.573) 3(-7.75,-10.573) 4(-7.25,-10.573) 5(-6.75,-10.573) 6(-6.25,-10.573) 7(-5.75,-10.573) 8(-5.25,-10.573) 9(-4.75,-10.573) 10(-4.25,-10.573) 11(-3.75,-10.573) 12(-3.25,-10.573) 13(-2.75,-10.573) 14(-2.25,-10.573) 15(-1.75,-10.573) 16(-1.25,-10.573) 17(-0.75,-10.573) 18(-0.25,-10.573) 19(0.25,-10.573) 20(0.75,-10.573) 21(1.25,-10.573) 22(1.75,-10.573) 23(2.25,-10.573) 24(2.75,-10.573) 25(3.25,-10.573) 26(3.75,-10.573) 27(4.25,-10.573) 28(4.75,-10.573) 29(5.25,-10.573) 30(5.75,-10.573) 31(6.25,-10.573) 32(6.75,-10.573) 33(7.25,-10.573) 34(7.75,-10.573) 35(8.25,-10.573) 36(8.75,-10.573) 73(8.75,10.573) 74(8.25,10.573) 75(7.75,10.573) 76(7.25,10.573) 77(6.75,10.573) 78(6.25,10.573) 79(5.75,10.573) 80(5.25,10.573) 81(4.75,10.573) 82(4.25,10.573) 83(3.75,10.573) 84(3.25,10.573) 85(2.75,10.573) 86(2.25,10.573) 87(1.75,10.573) 88(1.25,10.573) 89(0.75,10.573) 90(0.25,10.573) 91(-0.25,10.573) 92(-0.75,10.573) 93(-1.25,10.573) 94(-1.75,10.573) 95(-2.25,10.573) 96(-2.75,10.573) 97(-3.25,10.573) 98(-3.75,10.573) 99(-4.25,10.573) 100(-4.75,10.573) 101(-5.25,10.573) 102(-5.75,10.573) 103(-6.25,10.573) 104(-6.75,10.573) 105(-7.25,10.573) 106(-7.75,10.573) 107(-8.25,10.573) 108(-8.75,10.573)
  oval 1.8x0.3 smd: 37(10.573,-8.75) 38(10.573,-8.25) 39(10.573,-7.75) 40(10.573,-7.25) 41(10.573,-6.75) 42(10.573,-6.25) 43(10.573,-5.75) 44(10.573,-5.25) 45(10.573,-4.75) 46(10.573,-4.25) 47(10.573,-3.75) 48(10.573,-3.25) 49(10.573,-2.75) 50(10.573,-2.25) 51(10.573,-1.75) 52(10.573,-1.25) 53(10.573,-0.75) 54(10.573,-0.25) 55(10.573,0.25) 56(10.573,0.75) 57(10.573,1.25) 58(10.573,1.75) 59(10.573,2.25) 60(10.573,2.75) 61(10.573,3.25) 62(10.573,3.75) 63(10.573,4.25) 64(10.573,4.75) 65(10.573,5.25) 66(10.573,5.75) 67(10.573,6.25) 68(10.573,6.75) 69(10.573,7.25) 70(10.573,7.75) 71(10.573,8.25) 72(10.573,8.75) 109(-10.573,8.75) 110(-10.573,8.25) 111(-10.573,7.75) 112(-10.573,7.25) 113(-10.573,6.75) 114(-10.573,6.25) 115(-10.573,5.75) 116(-10.573,5.25) 117(-10.573,4.75) 118(-10.573,4.25) 119(-10.573,3.75) 120(-10.573,3.25) 121(-10.573,2.75) 122(-10.573,2.25) 123(-10.573,1.75) 124(-10.573,1.25) 125(-10.573,0.75) 126(-10.573,0.25) 127(-10.573,-0.25) 128(-10.573,-0.75) 129(-10.573,-1.25) 130(-10.573,-1.75) 131(-10.573,-2.25) 132(-10.573,-2.75) 133(-10.573,-3.25) 134(-10.573,-3.75) 135(-10.573,-4.25) 136(-10.573,-4.75) 137(-10.573,-5.25) 138(-10.573,-5.75) 139(-10.573,-6.25) 140(-10.573,-6.75) 141(-10.573,-7.25) 142(-10.573,-7.75) 143(-10.573,-8.25) 144(-10.573,-8.75)
Top Overlay:
  circle w0.254: c-7.366,-7.366 r0.762
  circle w0.508: c-9.779,-10.922 r0.25
  lines w0.254: -8.89,-8.892 8.89,-8.892 8.89,8.89 -8.89,8.89 -8.89,-8.892
Mechanical 13:
  circle w0.1: c-8.894,-8.894 r0.5
  lines w0.15: -10,-10 -10,10 10,10 10,-10 -10,-10
Mechanical 15:
  circle w0.05: c0,0 r0.35
  lines w0.05: -0.5,0 0.5,0 ; 0,-0.5 0,0.5
  lines w0.15: -11.811,-11.811 11.811,-11.811 11.811,11.811 -11.811,11.811 -11.811,-11.811
3D body: height 1.45, standoff -0.01, extent -11.003,-11.003 11.003,11.003

## LQFP176 24x24_L [mm] "176脚，体宽24x24mm，脚距0.5mm"
height 1.6
pads (176):
  oval 0.25x1.5 smd: 1(-10.75,-12.525) 2(-10.25,-12.525) 3(-9.75,-12.525) 4(-9.25,-12.525) 5(-8.75,-12.525) 6(-8.25,-12.525) 7(-7.75,-12.525) 8(-7.25,-12.525) 9(-6.75,-12.525) 10(-6.25,-12.525) 11(-5.75,-12.525) 12(-5.25,-12.525) 13(-4.75,-12.525) 14(-4.25,-12.525) 15(-3.75,-12.525) 16(-3.25,-12.525) 17(-2.75,-12.525) 18(-2.25,-12.525) 19(-1.75,-12.525) 20(-1.25,-12.525) 21(-0.75,-12.525) 22(-0.25,-12.525) 23(0.25,-12.525) 24(0.75,-12.525) 25(1.25,-12.525) 26(1.75,-12.525) 27(2.25,-12.525) 28(2.75,-12.525) 29(3.25,-12.525) 30(3.75,-12.525) 31(4.25,-12.525) 32(4.75,-12.525) 33(5.25,-12.525) 34(5.75,-12.525) 35(6.25,-12.525) 36(6.75,-12.525) 37(7.25,-12.525) 38(7.75,-12.525) 39(8.25,-12.525) 40(8.75,-12.525) 41(9.25,-12.525) 42(9.75,-12.525) 43(10.25,-12.525) 44(10.75,-12.525) 89(10.75,12.525) 90(10.25,12.525) 91(9.75,12.525) 92(9.25,12.525) 93(8.75,12.525) 94(8.25,12.525) 95(7.75,12.525) 96(7.25,12.525) 97(6.75,12.525) 98(6.25,12.525) 99(5.75,12.525) 100(5.25,12.525) 101(4.75,12.525) 102(4.25,12.525) 103(3.75,12.525) 104(3.25,12.525) 105(2.75,12.525) 106(2.25,12.525) 107(1.75,12.525) 108(1.25,12.525) 109(0.75,12.525) 110(0.25,12.525) 111(-0.25,12.525) 112(-0.75,12.525) 113(-1.25,12.525) 114(-1.75,12.525) 115(-2.25,12.525) 116(-2.75,12.525) 117(-3.25,12.525) 118(-3.75,12.525) 119(-4.25,12.525) 120(-4.75,12.525) 121(-5.25,12.525) 122(-5.75,12.525) 123(-6.25,12.525) 124(-6.75,12.525) 125(-7.25,12.525) 126(-7.75,12.525) 127(-8.25,12.525) 128(-8.75,12.525) 129(-9.25,12.525) 130(-9.75,12.525) 131(-10.25,12.525) 132(-10.75,12.525)
  oval 1.5x0.25 smd: 45(12.525,-10.75) 46(12.525,-10.25) 47(12.525,-9.75) 48(12.525,-9.25) 49(12.525,-8.75) 50(12.525,-8.25) 51(12.525,-7.75) 52(12.525,-7.25) 53(12.525,-6.75) 54(12.525,-6.25) 55(12.525,-5.75) 56(12.525,-5.25) 57(12.525,-4.75) 58(12.525,-4.25) 59(12.525,-3.75) 60(12.525,-3.25) 61(12.525,-2.75) 62(12.525,-2.25) 63(12.525,-1.75) 64(12.525,-1.25) 65(12.525,-0.75) 66(12.525,-0.25) 67(12.525,0.25) 68(12.525,0.75) 69(12.525,1.25) 70(12.525,1.75) 71(12.525,2.25) 72(12.525,2.75) 73(12.525,3.25) 74(12.525,3.75) 75(12.525,4.25) 76(12.525,4.75) 77(12.525,5.25) 78(12.525,5.75) 79(12.525,6.25) 80(12.525,6.75) 81(12.525,7.25) 82(12.525,7.75) 83(12.525,8.25) 84(12.525,8.75) 85(12.525,9.25) 86(12.525,9.75) 87(12.525,10.25) 88(12.525,10.75) 133(-12.525,10.75) 134(-12.525,10.25) 135(-12.525,9.75) 136(-12.525,9.25) 137(-12.525,8.75) 138(-12.525,8.25) 139(-12.525,7.75) 140(-12.525,7.25) 141(-12.525,6.75) 142(-12.525,6.25) 143(-12.525,5.75) 144(-12.525,5.25) 145(-12.525,4.75) 146(-12.525,4.25) 147(-12.525,3.75) 148(-12.525,3.25) 149(-12.525,2.75) 150(-12.525,2.25) 151(-12.525,1.75) 152(-12.525,1.25) 153(-12.525,0.75) 154(-12.525,0.25) 155(-12.525,-0.25) 156(-12.525,-0.75) 157(-12.525,-1.25) 158(-12.525,-1.75) 159(-12.525,-2.25) 160(-12.525,-2.75) 161(-12.525,-3.25) 162(-12.525,-3.75) 163(-12.525,-4.25) 164(-12.525,-4.75) 165(-12.525,-5.25) 166(-12.525,-5.75) 167(-12.525,-6.25) 168(-12.525,-6.75) 169(-12.525,-7.25) 170(-12.525,-7.75) 171(-12.525,-8.25) 172(-12.525,-8.75) 173(-12.525,-9.25) 174(-12.525,-9.75) 175(-12.525,-10.25) 176(-12.525,-10.75)
Top Overlay:
  circle w0.508: c-11.684,-12.7 r0.25
  circle w0.254: c-9.144,-9.144 r1.016
  lines w0.254: -10.922,-10.922 10.922,-10.922 10.922,10.922 -10.922,10.922 -10.922,-10.922
Mechanical 13:
  circle w0.1: c-11.1,-11.1 r0.5
  lines w0.1: -12,-12 12,-12 12,12 -12,12 -12,-12
Mechanical 15:
  circle w0.05: c0,0 r0.35
  lines w0.05: -0.5,0 0.5,0 ; 0,-0.5 0,0.5
  lines w0.15: -13.589,-13.589 13.589,-13.589 13.589,13.589 -13.589,13.589 -13.589,-13.589
3D body: height 1.45, standoff -0.01, extent -13.003,-13.003 13.003,13.003

## LQFP176 24x24_M [mm] "176脚，体宽24x24mm，脚距0.5mm"
height 1.6
pads (176):
  oval 0.3x2.1 smd: 1(-10.75,-12.727) 2(-10.25,-12.727) 3(-9.75,-12.727) 4(-9.25,-12.727) 5(-8.75,-12.727) 6(-8.25,-12.727) 7(-7.75,-12.727) 8(-7.25,-12.727) 9(-6.75,-12.727) 10(-6.25,-12.727) 11(-5.75,-12.727) 12(-5.25,-12.727) 13(-4.75,-12.727) 14(-4.25,-12.727) 15(-3.75,-12.727) 16(-3.25,-12.727) 17(-2.75,-12.727) 18(-2.25,-12.727) 19(-1.75,-12.727) 20(-1.25,-12.727) 21(-0.75,-12.727) 22(-0.25,-12.727) 23(0.25,-12.727) 24(0.75,-12.727) 25(1.25,-12.727) 26(1.75,-12.727) 27(2.25,-12.727) 28(2.75,-12.727) 29(3.25,-12.727) 30(3.75,-12.727) 31(4.25,-12.727) 32(4.75,-12.727) 33(5.25,-12.727) 34(5.75,-12.727) 35(6.25,-12.727) 36(6.75,-12.727) 37(7.25,-12.727) 38(7.75,-12.727) 39(8.25,-12.727) 40(8.75,-12.727) 41(9.25,-12.727) 42(9.75,-12.727) 43(10.25,-12.727) 44(10.75,-12.727) 89(10.75,12.727) 90(10.25,12.727) 91(9.75,12.727) 92(9.25,12.727) 93(8.75,12.727) 94(8.25,12.727) 95(7.75,12.727) 96(7.25,12.727) 97(6.75,12.727) 98(6.25,12.727) 99(5.75,12.727) 100(5.25,12.727) 101(4.75,12.727) 102(4.25,12.727) 103(3.75,12.727) 104(3.25,12.727) 105(2.75,12.727) 106(2.25,12.727) 107(1.75,12.727) 108(1.25,12.727) 109(0.75,12.727) 110(0.25,12.727) 111(-0.25,12.727) 112(-0.75,12.727) 113(-1.25,12.727) 114(-1.75,12.727) 115(-2.25,12.727) 116(-2.75,12.727) 117(-3.25,12.727) 118(-3.75,12.727) 119(-4.25,12.727) 120(-4.75,12.727) 121(-5.25,12.727) 122(-5.75,12.727) 123(-6.25,12.727) 124(-6.75,12.727) 125(-7.25,12.727) 126(-7.75,12.727) 127(-8.25,12.727) 128(-8.75,12.727) 129(-9.25,12.727) 130(-9.75,12.727) 131(-10.25,12.727) 132(-10.75,12.727)
  oval 2.1x0.3 smd: 45(12.727,-10.75) 46(12.727,-10.25) 47(12.727,-9.75) 48(12.727,-9.25) 49(12.727,-8.75) 50(12.727,-8.25) 51(12.727,-7.75) 52(12.727,-7.25) 53(12.727,-6.75) 54(12.727,-6.25) 55(12.727,-5.75) 56(12.727,-5.25) 57(12.727,-4.75) 58(12.727,-4.25) 59(12.727,-3.75) 60(12.727,-3.25) 61(12.727,-2.75) 62(12.727,-2.25) 63(12.727,-1.75) 64(12.727,-1.25) 65(12.727,-0.75) 66(12.727,-0.25) 67(12.727,0.25) 68(12.727,0.75) 69(12.727,1.25) 70(12.727,1.75) 71(12.727,2.25) 72(12.727,2.75) 73(12.727,3.25) 74(12.727,3.75) 75(12.727,4.25) 76(12.727,4.75) 77(12.727,5.25) 78(12.727,5.75) 79(12.727,6.25) 80(12.727,6.75) 81(12.727,7.25) 82(12.727,7.75) 83(12.727,8.25) 84(12.727,8.75) 85(12.727,9.25) 86(12.727,9.75) 87(12.727,10.25) 88(12.727,10.75) 133(-12.727,10.75) 134(-12.727,10.25) 135(-12.727,9.75) 136(-12.727,9.25) 137(-12.727,8.75) 138(-12.727,8.25) 139(-12.727,7.75) 140(-12.727,7.25) 141(-12.727,6.75) 142(-12.727,6.25) 143(-12.727,5.75) 144(-12.727,5.25) 145(-12.727,4.75) 146(-12.727,4.25) 147(-12.727,3.75) 148(-12.727,3.25) 149(-12.727,2.75) 150(-12.727,2.25) 151(-12.727,1.75) 152(-12.727,1.25) 153(-12.727,0.75) 154(-12.727,0.25) 155(-12.727,-0.25) 156(-12.727,-0.75) 157(-12.727,-1.25) 158(-12.727,-1.75) 159(-12.727,-2.25) 160(-12.727,-2.75) 161(-12.727,-3.25) 162(-12.727,-3.75) 163(-12.727,-4.25) 164(-12.727,-4.75) 165(-12.727,-5.25) 166(-12.727,-5.75) 167(-12.727,-6.25) 168(-12.727,-6.75) 169(-12.727,-7.25) 170(-12.727,-7.75) 171(-12.727,-8.25) 172(-12.727,-8.75) 173(-12.727,-9.25) 174(-12.727,-9.75) 175(-12.727,-10.25) 176(-12.727,-10.75)
Top Overlay:
  circle w0.254: c-9.144,-9.144 r1.016
  circle w0.508: c-11.811,-13.208 r0.25
  lines w0.254: -10.922,-10.922 10.922,-10.922 10.922,10.922 -10.922,10.922 -10.922,-10.922
Mechanical 13:
  circle w0.1: c-11.1,-11.1 r0.5
  lines w0.1: -12,-12 12,-12 12,12 -12,12 -12,-12
Mechanical 15:
  circle w0.05: c0,0 r0.35
  lines w0.05: -0.5,0 0.5,0 ; 0,-0.5 0,0.5
  lines w0.15: -14.15,-14.15 14.15,-14.15 14.15,14.15 -14.15,14.15 -14.15,-14.15
3D body: height 1.45, standoff -0.01, extent -13.003,-13.003 13.003,13.003

## LQFP176 24x24_N [mm] "176脚，体宽24x24mm，脚距0.5mm"
height 1.6
pads (176):
  oval 0.3x1.8 smd: 1(-10.748,-12.575) 2(-10.248,-12.575) 3(-9.748,-12.575) 4(-9.248,-12.575) 5(-8.748,-12.575) 6(-8.248,-12.575) 7(-7.748,-12.575) 8(-7.248,-12.575) 9(-6.748,-12.575) 10(-6.248,-12.575) 11(-5.748,-12.575) 12(-5.248,-12.575) 13(-4.748,-12.575) 14(-4.248,-12.575) 15(-3.748,-12.575) 16(-3.248,-12.575) 17(-2.748,-12.575) 18(-2.248,-12.575) 19(-1.748,-12.575) 20(-1.248,-12.575) 21(-0.748,-12.575) 22(-0.248,-12.575) 23(0.252,-12.575) 24(0.752,-12.575) 25(1.252,-12.575) 26(1.752,-12.575) 27(2.252,-12.575) 28(2.752,-12.575) 29(3.252,-12.575) 30(3.752,-12.575) 31(4.252,-12.575) 32(4.752,-12.575) 33(5.252,-12.575) 34(5.752,-12.575) 35(6.252,-12.575) 36(6.752,-12.575) 37(7.252,-12.575) 38(7.752,-12.575) 39(8.252,-12.575) 40(8.752,-12.575) 41(9.252,-12.575) 42(9.752,-12.575) 43(10.252,-12.575) 44(10.752,-12.575) 89(10.752,12.575) 90(10.252,12.575) 91(9.752,12.575) 92(9.252,12.575) 93(8.752,12.575) 94(8.252,12.575) 95(7.752,12.575) 96(7.252,12.575) 97(6.752,12.575) 98(6.252,12.575) 99(5.752,12.575) 100(5.252,12.575) 101(4.752,12.575) 102(4.252,12.575) 103(3.752,12.575) 104(3.252,12.575) 105(2.752,12.575) 106(2.252,12.575) 107(1.752,12.575) 108(1.252,12.575) 109(0.752,12.575) 110(0.252,12.575) 111(-0.248,12.575) 112(-0.748,12.575) 113(-1.248,12.575) 114(-1.748,12.575) 115(-2.248,12.575) 116(-2.748,12.575) 117(-3.248,12.575) 118(-3.748,12.575) 119(-4.248,12.575) 120(-4.748,12.575) 121(-5.248,12.575) 122(-5.748,12.575) 123(-6.248,12.575) 124(-6.748,12.575) 125(-7.248,12.575) 126(-7.748,12.575) 127(-8.248,12.575) 128(-8.748,12.575) 129(-9.248,12.575) 130(-9.748,12.575) 131(-10.248,12.575) 132(-10.748,12.575)
  oval 1.8x0.3 smd: 45(12.578,-10.75) 46(12.578,-10.25) 47(12.578,-9.75) 48(12.578,-9.25) 49(12.578,-8.75) 50(12.578,-8.25) 51(12.578,-7.75) 52(12.578,-7.25) 53(12.578,-6.75) 54(12.578,-6.25) 55(12.578,-5.75) 56(12.578,-5.25) 57(12.578,-4.75) 58(12.578,-4.25) 59(12.578,-3.75) 60(12.578,-3.25) 61(12.578,-2.75) 62(12.578,-2.25) 63(12.578,-1.75) 64(12.578,-1.25) 65(12.578,-0.75) 66(12.578,-0.25) 67(12.578,0.25) 68(12.578,0.75) 69(12.578,1.25) 70(12.578,1.75) 71(12.578,2.25) 72(12.578,2.75) 73(12.578,3.25) 74(12.578,3.75) 75(12.578,4.25) 76(12.578,4.75) 77(12.578,5.25) 78(12.578,5.75) 79(12.578,6.25) 80(12.578,6.75) 81(12.578,7.25) 82(12.578,7.75) 83(12.578,8.25) 84(12.578,8.75) 85(12.578,9.25) 86(12.578,9.75) 87(12.578,10.25) 88(12.578,10.75) 133(-12.573,10.75) 134(-12.573,10.25) 135(-12.573,9.75) 136(-12.573,9.25) 137(-12.573,8.75) 138(-12.573,8.25) 139(-12.573,7.75) 140(-12.573,7.25) 141(-12.573,6.75) 142(-12.573,6.25) 143(-12.573,5.75) 144(-12.573,5.25) 145(-12.573,4.75) 146(-12.573,4.25) 147(-12.573,3.75) 148(-12.573,3.25) 149(-12.573,2.75) 150(-12.573,2.25) 151(-12.573,1.75) 152(-12.573,1.25) 153(-12.573,0.75) 154(-12.573,0.25) 155(-12.573,-0.25) 156(-12.573,-0.75) 157(-12.573,-1.25) 158(-12.573,-1.75) 159(-12.573,-2.25) 160(-12.573,-2.75) 161(-12.573,-3.25) 162(-12.573,-3.75) 163(-12.573,-4.25) 164(-12.573,-4.75) 165(-12.573,-5.25) 166(-12.573,-5.75) 167(-12.573,-6.25) 168(-12.573,-6.75) 169(-12.573,-7.25) 170(-12.573,-7.75) 171(-12.573,-8.25) 172(-12.573,-8.75) 173(-12.573,-9.25) 174(-12.573,-9.75) 175(-12.573,-10.25) 176(-12.573,-10.75)
Top Overlay:
  circle w0.508: c-11.811,-12.827 r0.25
  circle w0.254: c-9.142,-9.144 r1.016
  lines w0.254: -10.92,-10.922 -10.92,10.922 10.924,10.922 10.924,-10.922 -10.92,-10.922
Mechanical 13:
  circle w0.1: c-11.098,-11.1 r0.5
  lines w0.1: -11.998,-12 -11.998,12 12.002,12 12.002,-12 -11.998,-12
Mechanical 15:
  circle w0.05: c0.002,0 r0.35
  lines w0.05: -0.498,0 0.502,0 ; 0.002,-0.5 0.002,0.5
  lines w0.15: -13.843,-13.843 -13.843,13.843 13.843,13.843 13.843,-13.843 -13.843,-13.843
3D body: height 1.45, standoff -0.01, extent -13,-13.003 13.005,13.003

## LQFP208 28x28_L [mm] "208脚，体宽28x28mm，脚距0.5mm"
height 4.3
pads (208):
  oval 0.25x1.5 smd: 1(-12.75,-14.518) 2(-12.25,-14.518) 3(-11.75,-14.518) 4(-11.25,-14.518) 5(-10.75,-14.518) 6(-10.25,-14.518) 7(-9.75,-14.518) 8(-9.25,-14.518) 9(-8.75,-14.518) 10(-8.25,-14.518) 11(-7.75,-14.518) 12(-7.25,-14.518) 13(-6.75,-14.518) 14(-6.25,-14.518) 15(-5.75,-14.518) 16(-5.25,-14.518) 17(-4.75,-14.518) 18(-4.25,-14.518) 19(-3.75,-14.518) 20(-3.25,-14.518) 21(-2.75,-14.518) 22(-2.25,-14.518) 23(-1.75,-14.518) 24(-1.25,-14.518) 25(-0.75,-14.518) 26(-0.25,-14.518) 27(0.25,-14.518) 28(0.75,-14.518) 29(1.25,-14.518) 30(1.75,-14.518) 31(2.25,-14.518) 32(2.75,-14.518) 33(3.25,-14.518) 34(3.75,-14.518) 35(4.25,-14.518) 36(4.75,-14.518) 37(5.25,-14.518) 38(5.75,-14.518) 39(6.25,-14.518) 40(6.75,-14.518) 41(7.25,-14.518) 42(7.75,-14.518) 43(8.25,-14.518) 44(8.75,-14.518) 45(9.25,-14.518) 46(9.75,-14.518) 47(10.25,-14.518) 48(10.75,-14.518) 49(11.25,-14.518) 50(11.75,-14.518) 51(12.25,-14.518) 52(12.75,-14.518) 105(12.75,14.518) 106(12.25,14.518) 107(11.75,14.518) 108(11.25,14.518) 109(10.75,14.518) 110(10.25,14.518) 111(9.75,14.518) 112(9.25,14.518) 113(8.75,14.518) 114(8.25,14.518) 115(7.75,14.518) 116(7.25,14.518) 117(6.75,14.518) 118(6.25,14.518) 119(5.75,14.518) 120(5.25,14.518) 121(4.75,14.518) 122(4.25,14.518) 123(3.75,14.518) 124(3.25,14.518) 125(2.75,14.518) 126(2.25,14.518) 127(1.75,14.518) 128(1.25,14.518) 129(0.75,14.518) 130(0.25,14.518) 131(-0.25,14.518) 132(-0.75,14.518) 133(-1.25,14.518) 134(-1.75,14.518) 135(-2.25,14.518) 136(-2.75,14.518) 137(-3.25,14.518) 138(-3.75,14.518) 139(-4.25,14.518) 140(-4.75,14.518) 141(-5.25,14.518) 142(-5.75,14.518) 143(-6.25,14.518) 144(-6.75,14.518) 145(-7.25,14.518) 146(-7.75,14.518) 147(-8.25,14.518) 148(-8.75,14.518) 149(-9.25,14.518) 150(-9.75,14.518) 151(-10.25,14.518) 152(-10.75,14.518) 153(-11.25,14.518) 154(-11.75,14.518) 155(-12.25,14.518) 156(-12.75,14.518)
  oval 1.5x0.25 smd: 53(14.518,-12.75) 54(14.518,-12.25) 55(14.518,-11.75) 56(14.518,-11.25) 57(14.518,-10.75) 58(14.518,-10.25) 59(14.518,-9.75) 60(14.518,-9.25) 61(14.518,-8.75) 62(14.518,-8.25) 63(14.518,-7.75) 64(14.518,-7.25) 65(14.518,-6.75) 66(14.518,-6.25) 67(14.518,-5.75) 68(14.518,-5.25) 69(14.518,-4.75) 70(14.518,-4.25) 71(14.518,-3.75) 72(14.518,-3.25) 73(14.518,-2.75) 74(14.518,-2.25) 75(14.518,-1.75) 76(14.518,-1.25) 77(14.518,-0.75) 78(14.518,-0.25) 79(14.518,0.25) 80(14.518,0.75) 81(14.518,1.25) 82(14.518,1.75) 83(14.518,2.25) 84(14.518,2.75) 85(14.518,3.25) 86(14.518,3.75) 87(14.518,4.25) 88(14.518,4.75) 89(14.518,5.25) 90(14.518,5.75) 91(14.518,6.25) 92(14.518,6.75) 93(14.518,7.25) 94(14.518,7.75) 95(14.518,8.25) 96(14.518,8.75) 97(14.518,9.25) 98(14.518,9.75) 99(14.518,10.25) 100(14.518,10.75) 101(14.518,11.25) 102(14.518,11.75) 103(14.518,12.25) 104(14.518,12.75) 157(-14.518,12.75) 158(-14.518,12.25) 159(-14.518,11.75) 160(-14.518,11.25) 161(-14.518,10.75) 162(-14.518,10.25) 163(-14.518,9.75) 164(-14.518,9.25) 165(-14.518,8.75) 166(-14.518,8.25) 167(-14.518,7.75) 168(-14.518,7.25) 169(-14.518,6.75) 170(-14.518,6.25) 171(-14.518,5.75) 172(-14.518,5.25) 173(-14.518,4.75) 174(-14.518,4.25) 175(-14.518,3.75) 176(-14.518,3.25) 177(-14.518,2.75) 178(-14.518,2.25) 179(-14.518,1.75) 180(-14.518,1.25) 181(-14.518,0.75) 182(-14.518,0.25) 183(-14.518,-0.25) 184(-14.518,-0.75) 185(-14.518,-1.25) 186(-14.518,-1.75) 187(-14.518,-2.25) 188(-14.518,-2.75) 189(-14.518,-3.25) 190(-14.518,-3.75) 191(-14.518,-4.25) 192(-14.518,-4.75) 193(-14.518,-5.25) 194(-14.518,-5.75) 195(-14.518,-6.25) 196(-14.518,-6.75) 197(-14.518,-7.25) 198(-14.518,-7.75) 199(-14.518,-8.25) 200(-14.518,-8.75) 201(-14.518,-9.25) 202(-14.518,-9.75) 203(-14.518,-10.25) 204(-14.518,-10.75) 205(-14.518,-11.25) 206(-14.518,-11.75) 207(-14.518,-12.25) 208(-14.518,-12.75)
Top Overlay:
  circle w0.508: c-13.716,-14.732 r0.25
  circle w0.254: c-11.43,-11.43 r1.016
  lines w0.254: -13,-13.081 12.954,-13.081 12.954,12.954 -13,12.954 -13,-13.081
Mechanical 13:
  circle w0.1: c-13.1,-13.1 r0.5
  lines w0.1: -14,-14 14,-14 14,14 -14,14 -14,-14
Mechanical 15:
  circle w0.05: c0,0 r0.35
  lines w0.05: -0.5,0 0.5,0 ; 0,-0.5 0,0.5
  lines w0.15: -15.621,-15.621 15.621,-15.621 15.621,15.621 -15.621,15.621 -15.621,-15.621
3D body: height 1.45, standoff -0.01, extent -15.003,-15.003 15.003,15.003

## LQFP208 28x28_M [mm] "208脚，体宽28x28mm，脚距0.5mm"
height 4.3
pads (208):
  oval 0.35x2.1 smd: 1(-12.75,-14.745) 2(-12.25,-14.745) 3(-11.75,-14.745) 4(-11.25,-14.745) 5(-10.75,-14.745) 6(-10.25,-14.745) 7(-9.75,-14.745) 8(-9.25,-14.745) 9(-8.75,-14.745) 10(-8.25,-14.745) 11(-7.75,-14.745) 12(-7.25,-14.745) 13(-6.75,-14.745) 14(-6.25,-14.745) 15(-5.75,-14.745) 16(-5.25,-14.745) 17(-4.75,-14.745) 18(-4.25,-14.745) 19(-3.75,-14.745) 20(-3.25,-14.745) 21(-2.75,-14.745) 22(-2.25,-14.745) 23(-1.75,-14.745) 24(-1.25,-14.745) 25(-0.75,-14.745) 26(-0.25,-14.745) 27(0.25,-14.745) 28(0.75,-14.745) 29(1.25,-14.745) 30(1.75,-14.745) 31(2.25,-14.745) 32(2.75,-14.745) 33(3.25,-14.745) 34(3.75,-14.745) 35(4.25,-14.745) 36(4.75,-14.745) 37(5.25,-14.745) 38(5.75,-14.745) 39(6.25,-14.745) 40(6.75,-14.745) 41(7.25,-14.745) 42(7.75,-14.745) 43(8.25,-14.745) 44(8.75,-14.745) 45(9.25,-14.745) 46(9.75,-14.745) 47(10.25,-14.745) 48(10.75,-14.745) 49(11.25,-14.745) 50(11.75,-14.745) 51(12.25,-14.745) 52(12.75,-14.745) 105(12.75,14.745) 106(12.25,14.745) 107(11.75,14.745) 108(11.25,14.745) 109(10.75,14.745) 110(10.25,14.745) 111(9.75,14.745) 112(9.25,14.745) 113(8.75,14.745) 114(8.25,14.745) 115(7.75,14.745) 116(7.25,14.745) 117(6.75,14.745) 118(6.25,14.745) 119(5.75,14.745) 120(5.25,14.745) 121(4.75,14.745) 122(4.25,14.745) 123(3.75,14.745) 124(3.25,14.745) 125(2.75,14.745) 126(2.25,14.745) 127(1.75,14.745) 128(1.25,14.745) 129(0.75,14.745) 130(0.25,14.745) 131(-0.25,14.745) 132(-0.75,14.745) 133(-1.25,14.745) 134(-1.75,14.745) 135(-2.25,14.745) 136(-2.75,14.745) 137(-3.25,14.745) 138(-3.75,14.745) 139(-4.25,14.745) 140(-4.75,14.745) 141(-5.25,14.745) 142(-5.75,14.745) 143(-6.25,14.745) 144(-6.75,14.745) 145(-7.25,14.745) 146(-7.75,14.745) 147(-8.25,14.745) 148(-8.75,14.745) 149(-9.25,14.745) 150(-9.75,14.745) 151(-10.25,14.745) 152(-10.75,14.745) 153(-11.25,14.745) 154(-11.75,14.745) 155(-12.25,14.745) 156(-12.75,14.745)
  oval 2.1x0.35 smd: 53(14.745,-12.75) 54(14.745,-12.25) 55(14.745,-11.75) 56(14.745,-11.25) 57(14.745,-10.75) 58(14.745,-10.25) 59(14.745,-9.75) 60(14.745,-9.25) 61(14.745,-8.75) 62(14.745,-8.25) 63(14.745,-7.75) 64(14.745,-7.25) 65(14.745,-6.75) 66(14.745,-6.25) 67(14.745,-5.75) 68(14.745,-5.25) 69(14.745,-4.75) 70(14.745,-4.25) 71(14.745,-3.75) 72(14.745,-3.25) 73(14.745,-2.75) 74(14.745,-2.25) 75(14.745,-1.75) 76(14.745,-1.25) 77(14.745,-0.75) 78(14.745,-0.25) 79(14.745,0.25) 80(14.745,0.75) 81(14.745,1.25) 82(14.745,1.75) 83(14.745,2.25) 84(14.745,2.75) 85(14.745,3.25) 86(14.745,3.75) 87(14.745,4.25) 88(14.745,4.75) 89(14.745,5.25) 90(14.745,5.75) 91(14.745,6.25) 92(14.745,6.75) 93(14.745,7.25) 94(14.745,7.75) 95(14.745,8.25) 96(14.745,8.75) 97(14.745,9.25) 98(14.745,9.75) 99(14.745,10.25) 100(14.745,10.75) 101(14.745,11.25) 102(14.745,11.75) 103(14.745,12.25) 104(14.745,12.75) 157(-14.745,12.75) 158(-14.745,12.25) 159(-14.745,11.75) 160(-14.745,11.25) 161(-14.745,10.75) 162(-14.745,10.25) 163(-14.745,9.75) 164(-14.745,9.25) 165(-14.745,8.75) 166(-14.745,8.25) 167(-14.745,7.75) 168(-14.745,7.25) 169(-14.745,6.75) 170(-14.745,6.25) 171(-14.745,5.75) 172(-14.745,5.25) 173(-14.745,4.75) 174(-14.745,4.25) 175(-14.745,3.75) 176(-14.745,3.25) 177(-14.745,2.75) 178(-14.745,2.25) 179(-14.745,1.75) 180(-14.745,1.25) 181(-14.745,0.75) 182(-14.745,0.25) 183(-14.745,-0.25) 184(-14.745,-0.75) 185(-14.745,-1.25) 186(-14.745,-1.75) 187(-14.745,-2.25) 188(-14.745,-2.75) 189(-14.745,-3.25) 190(-14.745,-3.75) 191(-14.745,-4.25) 192(-14.745,-4.75) 193(-14.745,-5.25) 194(-14.745,-5.75) 195(-14.745,-6.25) 196(-14.745,-6.75) 197(-14.745,-7.25) 198(-14.745,-7.75) 199(-14.745,-8.25) 200(-14.745,-8.75) 201(-14.745,-9.25) 202(-14.745,-9.75) 203(-14.745,-10.25) 204(-14.745,-10.75) 205(-14.745,-11.25) 206(-14.745,-11.75) 207(-14.745,-12.25) 208(-14.745,-12.75)
Top Overlay:
  circle w0.254: c-11.43,-11.43 r1.016
  circle w0.508: c-13.843,-15.24 r0.25
  lines w0.254: -13,-13.081 12.954,-13.081 12.954,12.954 -13,12.954 -13,-13.081
Mechanical 13:
  circle w0.1: c-13.1,-13.1 r0.5
  lines w0.1: -14,-14 -14,14 14,14 14,-14 -14,-14
Mechanical 15:
  circle w0.05: c0,0 r0.35
  lines w0.05: -0.5,0 0.5,0 ; 0,-0.5 0,0.5
  lines w0.1: -16.129,-16.129 16.129,-16.129 16.129,16.129 -16.129,16.129 -16.129,-16.129
3D body: height 1.45, standoff -0.01, extent -15.003,-15.003 15.003,15.003